# EAGLE library part TPL0202-10_RTE_16 (library TIAnalog)
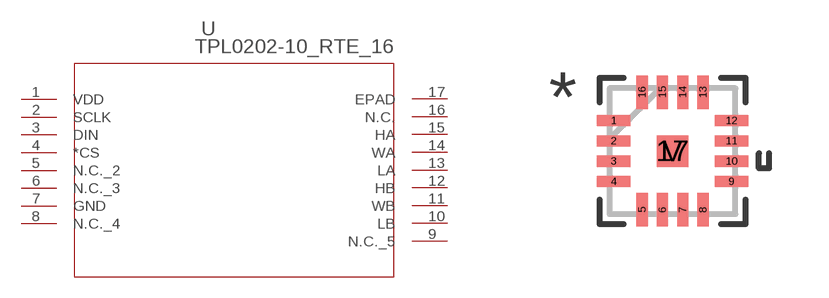
[diagram p1: symbol with the pads of RTE16_0P8X0P8; footprint RTE16_0P8X0P8]

Designator prefix U

## TPL0202-10_RTE_16 (DATASHEETURL: http://www.ti.com/lit/gpn/TPL0202-10; DESCRIPTION: 256 Taps, Dual Channel Digital Potentiometer with SPI Interface and Non-Volatile Memory; FAMILY_NAME: DIGITAL POTENTIOMETER; GENERIC_PART_NUMBER: TPL0202-10; INDUSTRY_STD_PKG_TYPE: WQFN; MANUFACTURER: Texas Instruments; MANUFACTURER_PART_NUMBER: tpl0202-10_rte_16; PACKAGE_DESIGNATOR: RTE; PIN_COUNT: 16; VENDOR: Texas Instruments)  [RTE16_0P8X0P8]
1  VDD  pwr
2  SCLK  pas
3  DIN  pas
4  *CS  pas
5  N.C._2  nc
6  N.C._3  nc
7  GND  pwr
8  N.C._4  nc
9  N.C._5  nc
10  LB  pas
11  WB  pas
12  HB  pas
13  LA  pas
14  WA  pas
15  HA  pas
16  N.C.  nc
17  EPAD  pas

## Footprint RTE16_0P8X0P8 (pad centres in mm)
smd 0.838 x 0.279: 1 -1.473,0.762; 2 -1.473,0.254; 3 -1.473,-0.254; 4 -1.473,-0.762; 9 1.473,-0.762; 10 1.473,-0.254; 11 1.473,0.254; 12 1.473,0.762
smd 0.279 x 0.838: 5 -0.762,-1.473; 6 -0.254,-1.473; 7 0.254,-1.473; 8 0.762,-1.473; 13 0.762,1.473; 14 0.254,1.473; 15 -0.254,1.473; 16 -0.762,1.473
smd 0.787 x 0.787: 17 0,0
drill 0.254: V 0,0